# Altium footprint library B32652.PcbLib: 1 footprints
Each footprint in its own frame and in the unit in brackets; x right, y up, seen from the top. Pads: shape width x height; smd on the part's side, far side on the other; paste and mask are expansions set on the pad; w line width, h text height; cw(c..) or ccw(c..) is an arc to the next point about the centre after c.
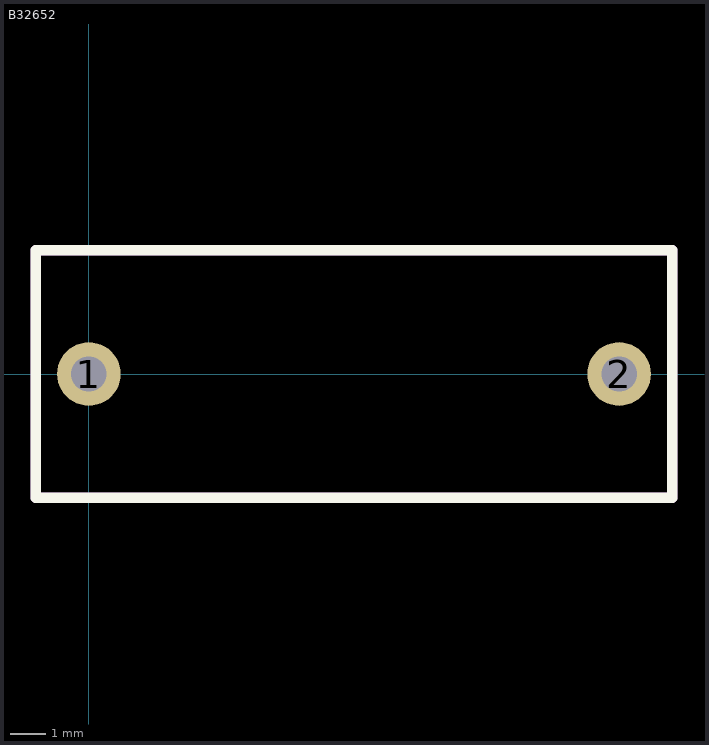
[diagram p0: the footprint, top view; thin cyan lines are the x and y axes]

## B32652 [mm]
pads (2):
  round 1.8 hole 1: 1(0,0) 2(15,0)
Top Overlay:
  lines w0.3: -1.5,-3.5 16.5,-3.5 16.5,3.5 -1.5,3.5 -1.5,-3.5
TopAssy:
  lines w0.3: -1.5,-3.5 -1.5,3.5 16.5,3.5 16.5,-3.5 -1.5,-3.5
3D body "User Library-B32652A_5x10_5x18.step": height 10.6, standoff -2.9, extent -1.6,-2.5 16.4,2.5